# EAGLE library part EPCS16SI8N (library cvogel)
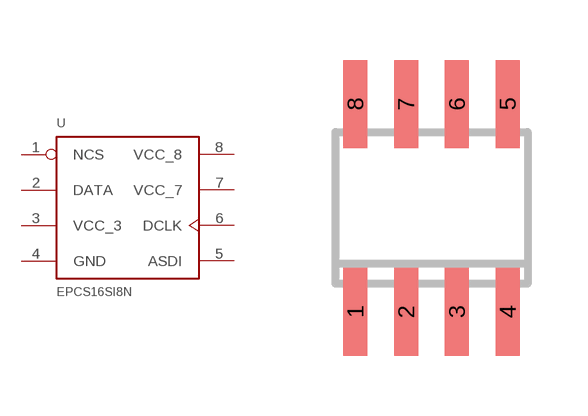
[diagram p2: symbol with the pads of SOIC8; footprint SOIC8]

Designator prefix U

## EPCS16SI8N  [SOIC8]
1  NCS  in
2  DATA  out
3  VCC_3  pwr
4  GND  pas
5  ASDI  in
6  DCLK  in
7  VCC_7  pwr
8  VCC_8  pwr

## Footprint SOIC8 (pad centres in mm)
Small Outline IC
smd 0.6 x 2.2: 1 -1.905,-2.6; 2 -0.635,-2.6; 3 0.635,-2.6; 4 1.905,-2.6; 5 1.905,2.6; 6 0.635,2.6; 7 -0.635,2.6; 8 -1.905,2.6